# Altium footprint library HTP.PcbLib: 8 footprints
Each footprint in its own frame and in the unit in brackets; x right, y up, seen from the top. Pads: shape width x height; smd on the part's side, far side on the other; paste and mask are expansions set on the pad; w line width, h text height; cw(c..) or ccw(c..) is an arc to the next point about the centre after c.
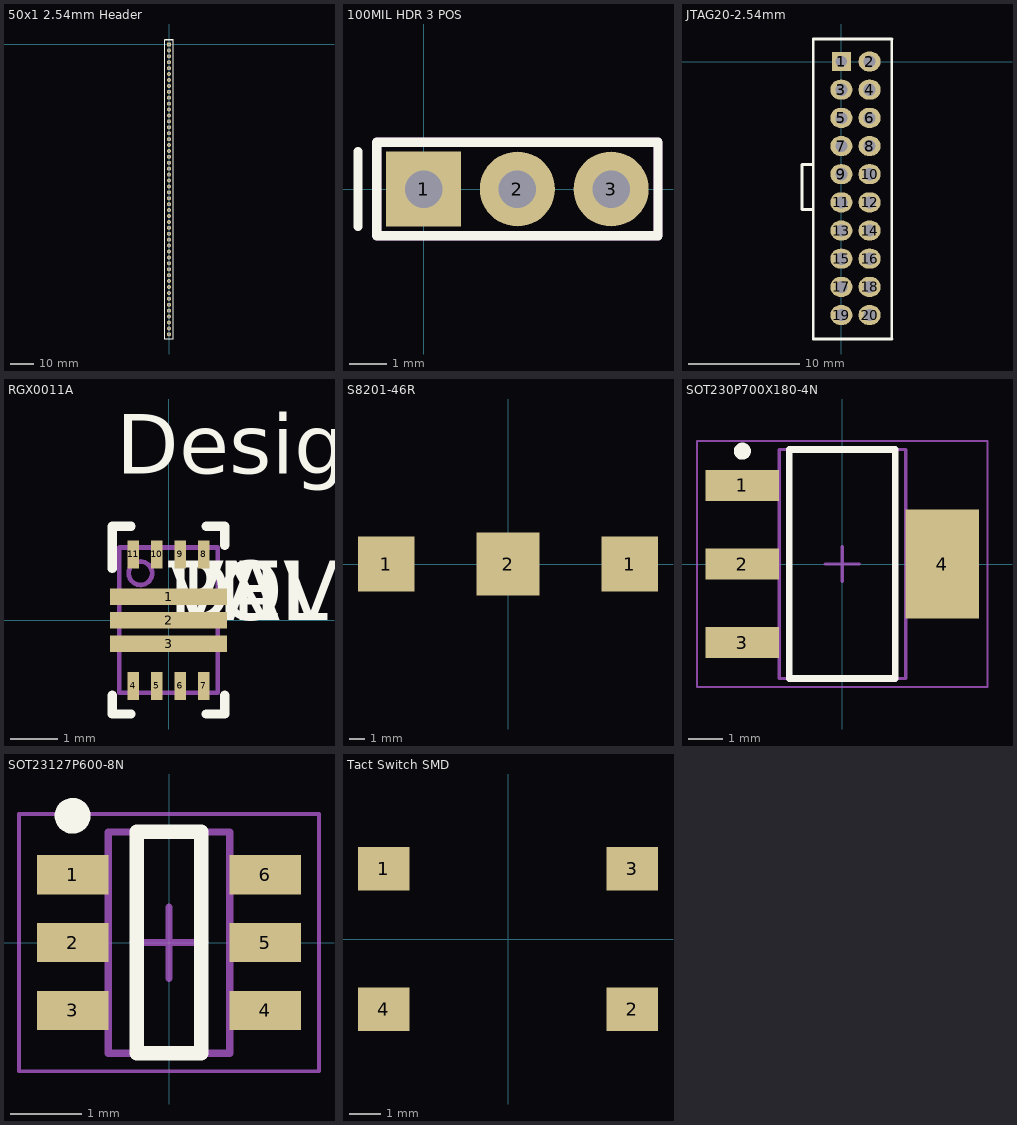
[diagram p0: the footprints below, top view; thin cyan lines are the x and y axes]

## 50x1 2.54mm Header [mm] "50-pin single-row 2.54mm (0.1\") header"
pads (50):
  rect 1.72x1.72 hole 1.016: 1(0,0)
  round 1.72 hole 1.016: 2(0,-2.54) 3(0,-5.08) 4(0,-7.62) 5(0,-10.16) 6(0,-12.7) 7(0,-15.24) 8(0,-17.78) 9(0,-20.32) 10(0,-22.86) 11(0,-25.4) 12(0,-27.94) 13(0,-30.48) 14(0,-33.02) 15(0,-35.56) 16(0,-38.1) 17(0,-40.64) 18(0,-43.18) 19(0,-45.72) 20(0,-48.26) 21(0,-50.8) 22(0,-53.34) 23(0,-55.88) 24(0,-58.42) 25(0,-60.96) 26(0,-63.5) 27(0,-66.04) 28(0,-68.58) 29(0,-71.12) 30(0,-73.66) 31(0,-76.2) 32(0,-78.74) 33(0,-81.28) 34(0,-83.82) 35(0,-86.36) 36(0,-88.9) 37(0,-91.44) 38(0,-93.98) 39(0,-96.52) 40(0,-99.06) 41(0,-101.6) 42(0,-104.14) 43(0,-106.68) 44(0,-109.22) 45(0,-111.76) 46(0,-114.3) 47(0,-116.84) 48(0,-119.38) 49(0,-121.92) 50(0,-124.46)
Top Overlay:
  lines w0.2: -1.851,-126.46 -1.851,-125.73 -1.851,1.27 ; -1.85,-126.45 1.85,-126.45 ; -1.85,1.3 -1.85,2 1.85,2 1.85,1.3 ; -1.81,2.35 1.81,2.35 ; 1.85,-126.46 1.85,-125.73 1.851,1.27

## 100MIL HDR 3 POS [mil]
pads (3):
  rect 80x80 hole 40: 1(0,0)
  round 80 hole 40: 2(100,0) 3(200,0)
Top Overlay:
  lines w10: -70,-40 -70,40 ; -50,-50 250,-50 250,50 -50,50 -50,-50
Mechanical 3:
  lines w10: -50,-50 250,-50 250,50 -50,50 -50,-50
3D body "Pin Header 1x3 TH Pitch 2.54mm.stp": height 125.98, standoff -373.85, extent -49.99,-49.99 250.01,50.01

## JTAG20-2.54mm [mm]
pads (20):
  rect 1.72x1.72 hole 1.016: 1(0,0)
  oval 2x1.8 hole 1.1: 2(2.54,0) 3(0,-2.54) 4(2.54,-2.54) 5(0,-5.08) 6(2.54,-5.08) 7(0,-7.62) 8(2.54,-7.62) 9(0,-10.16) 10(2.54,-10.16) 11(0,-12.7) 12(2.54,-12.7) 13(0,-15.24) 14(2.54,-15.24) 15(0,-17.78) 16(2.54,-17.78) 17(0,-20.32) 18(2.54,-20.32) 19(0,-22.86) 20(2.54,-22.86)
Top Overlay:
  lines w0.254: -2.54,-25.019 4.572,-25.019 ; -2.54,-25 -2.54,2 ; -2.54,-13.335 -3.556,-13.335 -3.556,-9.271 -2.54,-9.271 ; -2.54,2.032 4.572,2.032 ; 4.54,-25 4.54,2

## RGX0011A [mm]
pads (11):
  rect 2.5x0.35 smd paste-1.237 mask-0.051: 1(0,0.5) 2(0,0) 3(0,-0.5)
  rect 0.25x0.6 smd paste+0 mask+0.051: 4(-0.75,-1.4) 5(-0.25,-1.4) 6(0.25,-1.4) 7(0.75,-1.4) 8(0.75,1.4) 9(0.25,1.4) 10(-0.25,1.4) 11(-0.75,1.4)
Top Overlay:
  lines w0.2: -1.2,-1.6 -1.2,-2 -0.8,-2 ; -1.2,1.1 -1.2,2 -0.8,2 ; 0.8,-2 1.2,-2 1.2,-1.6 ; 0.8,2 1.2,2 1.2,1.6
  text "DEV" at 0,0 h1.27
  text "PN" at 0,0 h1.27
  text "VAL" at 0,0 h1.27
  text "TOL" at 0,0 h1.27
  text "Designator9" at -1.118,3.124 h1.27
Top Paste:
  drawing of 9 lines, arcs and shapes, not listed
Mechanical 13:
  circle w0.1: c-0.6,1 r0.25
  lines w0.1: -1.05,-1.55 1.05,-1.55 1.05,1.55 -1.05,1.55 -1.05,-1.55
  text ".Designator" at 0.65,-1.4 h1.27
3D body: height 0.25, standoff 0, extent 0,0 0.254,0.254

## S8201-46R [mm] "Battery Retainer Coin, 12.5mm 1 Cell SMD (SMT) Tab"
height 3.2
pads (3):
  rect 3.6x3.5 smd: 1(-7.75,0) 1(7.75,0)
  rect 4x4 smd: 2(0,0)
3D body "s8201-46r.stp": height 3.2, standoff 0, extent -9.499,-6.888 9.5,4.93

## SOT230P700X180-4N [mm] "SOT223, 4-Leads, Body 6.50x7.00mm (avg), Pitch 2.30mm, IPC Medium Density"
height 1.8
pads (4):
  rect 2.15x0.9 smd: 1(-2.925,2.3) 2(-2.925,0) 3(-2.925,-2.3)
  rect 2.15x3.2 smd: 4(2.925,0)
Top Overlay:
  circle w0.25: c-2.925,3.3 r0.125
  lines w0.2: -1.55,-3.35 -1.55,3.35 1.55,3.35 1.55,-3.35 -1.55,-3.35
Mechanical 13:
  lines w0.1: -1.85,-3.35 -1.85,3.35 1.85,3.35 1.85,-3.35 -1.85,-3.35
Mechanical 15:
  lines w0.05: -4.25,-3.6 -4.25,3.6 4.25,3.6 4.25,-3.6 -4.25,-3.6
  lines w0.1: -0.5,0 0.5,0 ; 0,-0.5 0,0.5
3D body: height 1.8, standoff 0.02, extent -1.85,-3.35 1.85,3.35

## SOT23127P600-8N [mm]
height 1.1
pads (6):
  rect 1x0.55 smd: 1(-1.35,0.95) 2(-1.35,0) 3(-1.35,-0.95) 4(1.35,-0.95) 5(1.35,0) 6(1.35,0.95)
Top Overlay:
  circle w0.25: c-1.35,1.775 r0.125
  lines w0.2: -0.45,-1.55 -0.45,1.55 0.45,1.55 0.45,-1.55 -0.45,-1.55
Mechanical 13:
  lines w0.1: -0.85,-1.55 0.85,-1.55 0.85,1.55 -0.85,1.55 -0.85,-1.55
Mechanical 15:
  lines w0.05: -2.1,-1.8 2.1,-1.8 2.1,1.8 -2.1,1.8 -2.1,-1.8
  lines w0.1: -0.5,0 0.5,0 ; 0,-0.5 0,0.5
3D body: height 1.1, standoff 0, extent -0.85,-1.55 0.85,1.55

## Tact Switch SMD [mm] "SMD Tactile Switch"
pads (4):
  rect 1.65x1.4 smd: 1(-3.975,2.25) 2(3.975,-2.25) 3(3.97,2.25) 4(-3.975,-2.25)